# Altium schematic symbol library Schlib1.SchLib: 2 symbols
Pins are listed as number, name and electrical type; pins without a type are passive.

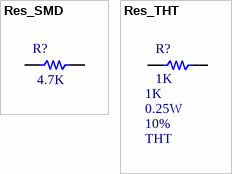
[diagram p0: symbols Res_SMD to Res_THT]

## Res_SMD
designator R?, comment 4.7K
Rating: 0.125W; Type: 1%; Package: 0805; Value: 4.7K
footprint Res_SMD_0805
pins: 1, 2

## Res_THT
designator R?, comment 1K  Package: THT  Rating: 0.25W  Type: 10%
Value: 1K
footprint Res_THT_1/4
pins: 1, 2